# Altium integrated library B43509B9157M080.IntLib: 1 symbol
Pins are listed as number, name and electrical type; pins without a type are passive.

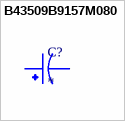
[diagram p0: symbol B43509B9157M080]

## B43509B9157M080
designator C?
150 ÂµF 400 V Aluminum Electrolytic Capacitors Radial, Can - Snap-In 530mOhm @ 100Hz 3000 Hrs @ 105Â°C; MF: EPCOS; MP: B43509B9157M080; SnapEDA_Link: https://www.snapeda.com/parts/B43509B9157M080/EPCOS/view-part/?ref=snap; Package: None; Value: *; Check_prices: https://www.snapeda.com/parts/B43509B9157M080/EPCOS/view-part/?ref=eda
footprint CAP_B43509B9157M080
pins: 1, 2